# Altium footprint library PcbLib_RGB LED.PcbLib: 1 footprints
Each footprint in its own frame and in the unit in brackets; x right, y up, seen from the top. Pads: shape width x height; smd on the part's side, far side on the other; paste and mask are expansions set on the pad; w line width, h text height; cw(c..) or ccw(c..) is an arc to the next point about the centre after c.
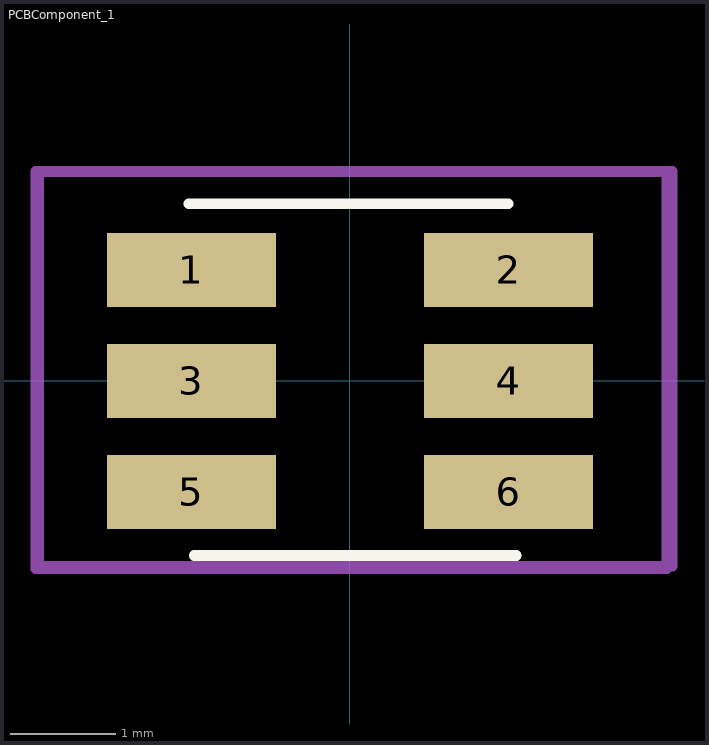
[diagram p0: the footprint, top view; thin cyan lines are the x and y axes]

## PCBComponent_1 [mm]
pads (6):
  rect 1.6x0.7 smd: 1(-1.5,1.05) 2(1.5,1.05) 3(-1.5,0) 4(1.5,0) 5(-1.5,-1.05) 6(1.5,-1.05)
Top Overlay:
  lines w0.1: -1.524,1.676 1.499,1.676 ; -1.473,-1.651 1.575,-1.651
Mechanical15:
  lines w0.1: -2.972,-1.778 2.997,-1.778 2.997,1.981 -2.972,1.981 -2.972,-1.778
Mechanical29:
  lines w0.1: -2.946,-1.753 3.048,-1.753 3.048,1.981 -2.946,1.981 -2.946,-1.753
3D body "ASMB-TTF2-0B20B--3DModel-STEP-269445.STEP": height 2.8, standoff 0, extent -1.85,-1.725 1.85,1.775